# Altium footprint library Tank.PcbLib: 288 footprints (part 10 of 18)
Each footprint in its own frame and in the unit in brackets; x right, y up, seen from the top. Pads: shape width x height; smd on the part's side, far side on the other; paste and mask are expansions set on the pad; w line width, h text height; cw(c..) or ccw(c..) is an arc to the next point about the centre after c.
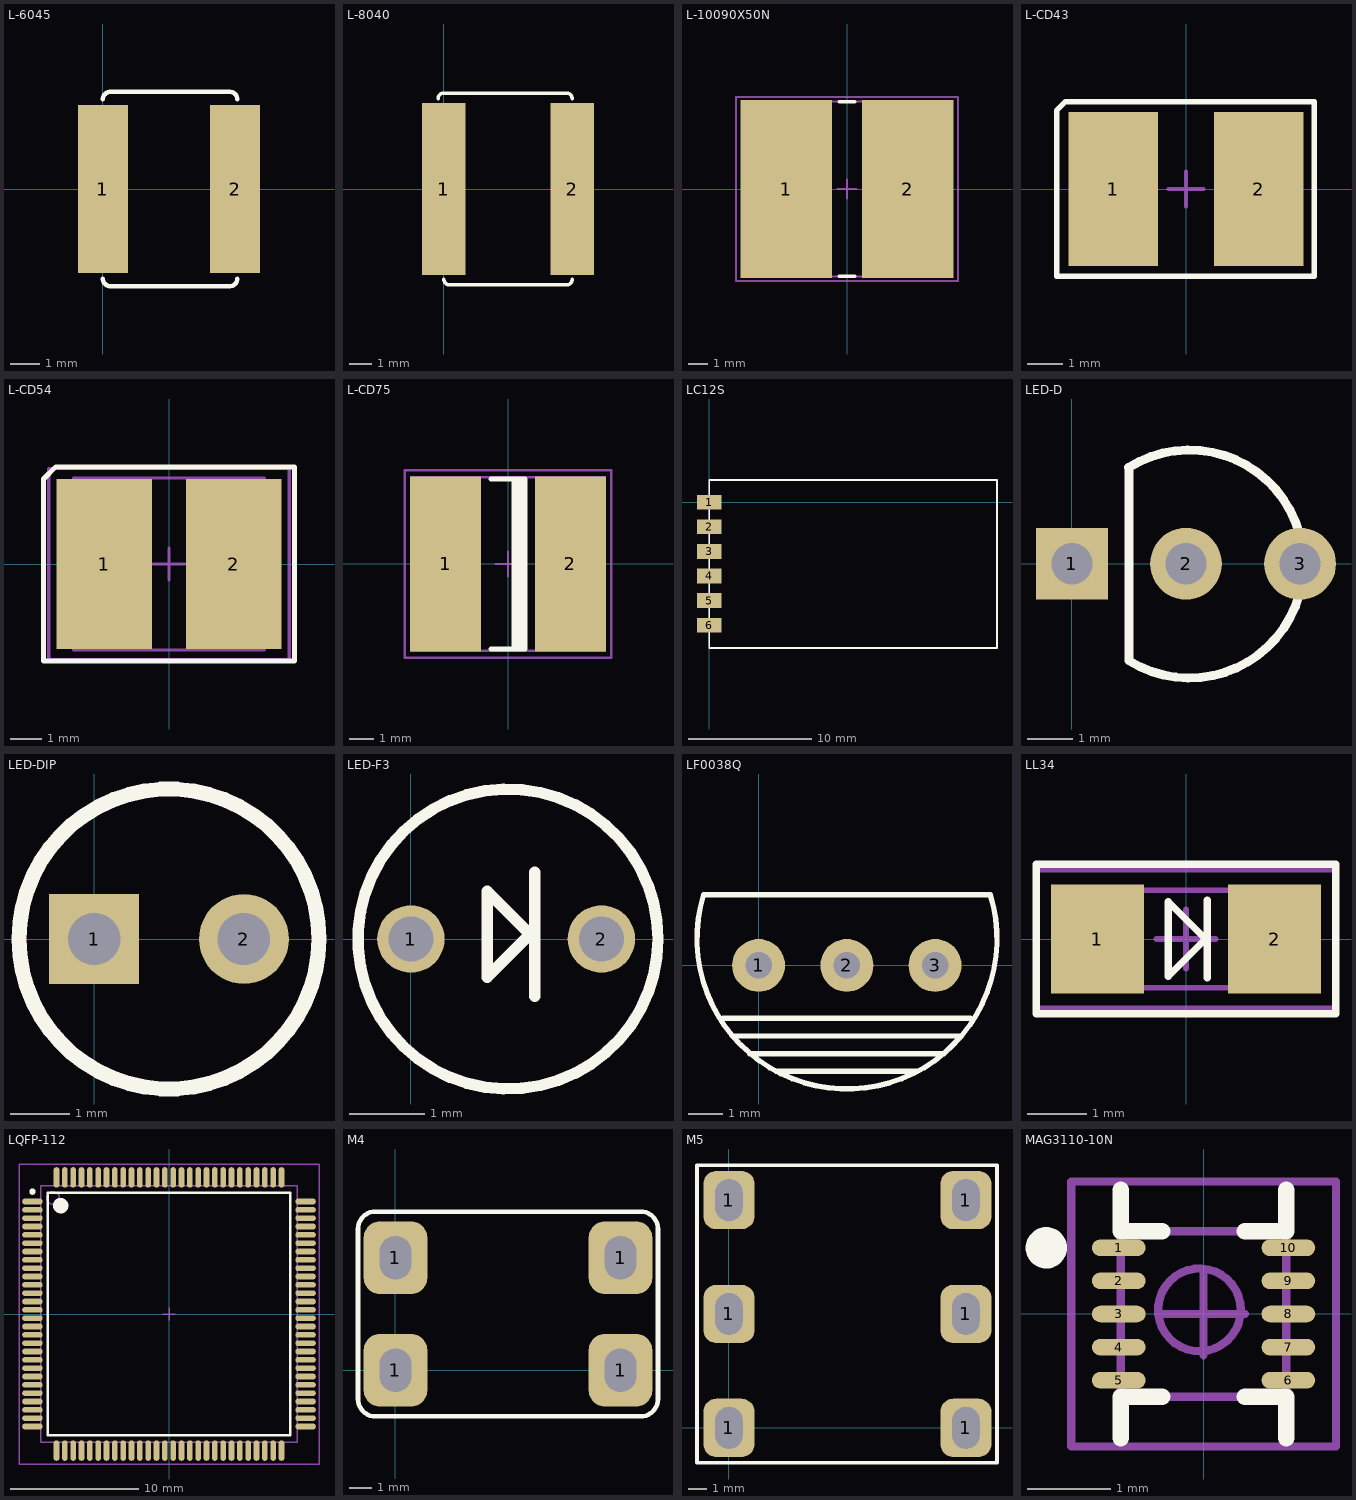
[diagram p9: the footprints below, top view; thin cyan lines are the x and y axes]

## L-6045 [mm]
pads (2):
  rect 1.7x5.7 smd: 1(0,0) 2(4.5,0)
Top Overlay:
  lines w0.152: 0,-3.048 ccw(c0.254,-3.048) 0.254,-3.302 4.331,-3.302 ccw(c4.325,-3.055) 4.572,-3.048 ; 0,3.048 cw(c0.254,3.048) 0.254,3.302 4.331,3.302 cw(c4.325,3.055) 4.572,3.048

## L-8040 [mm]
pads (2):
  rect 1.9x7.5 smd: 1(0,0) 2(5.6,0)
Top Overlay:
  lines w0.152: -0.254,3.937 cw(c0,3.937) 0,4.191 5.359,4.191 cw(c5.353,3.944) 5.6,3.937 ; 0,-3.937 ccw(c0.254,-3.937) 0.254,-4.191 5.359,-4.191 ccw(c5.353,-3.944) 5.6,-3.937

## L-10090X50N [mm] "Precision Wire Wound Inductor, 2-Leads, Body 10.0x9.0mm, IPC Medium Density"
height 5.04
pads (2):
  rect 4.8x9.4 smd: 1(-3.2,0) 2(3.2,0)
Top Overlay:
  lines w0.2: -0.4,-4.6 0.4,-4.6 ; -0.4,4.6 0.4,4.6
Mechanical 13:
  lines w0.1: -5.1,-4.6 -5.1,4.6 5.1,4.6 5.1,-4.6 -5.1,-4.6
Mechanical 15:
  lines w0.1: -0.5,0 0.5,0 ; 0,-0.5 0,0.5 ; -5.85,-4.85 -5.85,4.85 5.85,4.85 5.85,-4.85 -5.85,-4.85
3D body: height 5.04, standoff 0, extent -5.1,-4.6 5.1,4.6

## L-CD43 [mm]
pads (2):
  rect 2.5x4.3 smd: 1(-2.032,0) 2(2.032,0)
Top Overlay:
  lines w0.152: -3.607,-2.438 3.581,-2.438 3.581,2.438 -3.353,2.438 -3.607,2.184 -3.607,-2.438
Mechanical 15:
  lines w0.1: -0.5,0 0.5,0 ; 0,-0.5 0,0.5

## L-CD54 [mm]
height 2.29
pads (2):
  rect 3x5.35 smd: 1(-2.032,0) 2(2.032,0)
Top Overlay:
  lines w0.152: -3.937,-3.048 3.937,-3.048 3.937,3.048 -3.556,3.048 -3.937,2.667 -3.937,-3.048
Mechanical 13:
  rectangle: -3,-2.7 -2.193,2.7
  lines w0.1: -3,-2.7 -3,2.7 3,2.7 3,-2.7 -3,-2.7
Mechanical 15:
  lines w0.1: -0.5,0 0.5,0 ; 0,-0.5 0,0.5 ; -3.775,-3 -3.775,3 3.775,3 3.775,-3 -3.775,-3
3D body: height 2.29, standoff 0, extent -3,-2.7 3,2.7

## L-CD75 [mm] "Chip Inductor, 2-Leads, Body 7.9x7.0mm, IPC Medium Density"
height 0.6
pads (2):
  rect 2.9x7.15 smd: 1(-2.55,0) 2(2.55,0)
Top Overlay:
  rectangle: 0.15,-3.475 0.7,3.475
  lines w0.2: -0.7,-3.475 0.7,-3.475 0.7,3.475 -0.7,3.475
Mechanical 13:
  lines w0.1: -3.95,-3.55 3.95,-3.55 3.95,3.55 -3.95,3.55 -3.95,-3.55
Mechanical 15:
  lines w0.1: -0.5,0 0.5,0 ; 0,-0.5 0,0.5 ; -4.225,-3.825 4.225,-3.825 4.225,3.825 -4.225,3.825 -4.225,-3.825
3D body: height 0.6, standoff 0, extent -3.95,-3.55 3.95,3.55

## LC12S [mm]
pads (6):
  rect 2x1.2 smd: 1(0,0) 2(0,-2) 3(0,-4) 4(0,-6) 5(0,-8) 6(0,-10)
Top Overlay:
  lines w0.152: 0,-11.85 23.4,-11.85 23.4,1.8 0,1.8 0,-11.85

## LED-D [mm]
pads (3):
  rect 1.6x1.6 hole 0.92: 1(0,0)
  round 1.6 hole 0.92: 2(2.54,0) 3(5.08,0)
Top Overlay:
  lines w0.2: 1.261,2.143 cw(c2.616,-0.005) 1.27,-2.159 1.27,2.129

## LED-DIP [mil]
pads (2):
  rect 60x60 hole 35: 1(0,0)
  round 60 hole 35: 2(100,0)
Top Overlay:
  circle w10: c50,0 r100.13

## LED-F3 [mm]
pads (2):
  round 0.9 hole 0.6: 1(0,0) 2(2.54,0)
Top Overlay:
  circle w0.152: c1.294,0 r2
  lines w0.152: 1.651,-0.762 1.651,0.889 ; 1.651,0 1.016,0.635 1.016,-0.508 1.651,0.127

## LF0038Q [mil]
pads (3):
  round 60 hole 30: 1(0,0) 2(100,0) 3(200,0)
Top Overlay:
  lines w6: -62.28,80.09 ccw(c100.15,29.93) 262.56,80.17 ; -62,80 262,80 ; -40,-60 240,-60 ; -30,-80 230,-80 210,-100 -10,-100 ; 20,-120 180,-120

## LL34 [mm] "MELF Diode, 2-Leads, Body 3.3x1.6mm, IPC Medium Density"
height 1.65
pads (2):
  rect 1.575x1.85 smd: 1(-1.5,0) 2(1.5,0)
Top Overlay:
  lines w0.127: 0.356,-0.66 0.356,0.66 ; -2.54,-1.27 2.54,-1.27 2.54,1.27 -2.54,1.27 -2.54,-1.27 ; -0.305,-0.635 -0.305,0.635 0.33,0 -0.305,-0.635
Mechanical 13:
  rectangle: -1.65,-0.825 -1.206,0.825
  lines w0.1: -1.65,-0.825 -1.65,0.825 1.65,0.825 1.65,-0.825 -1.65,-0.825
Mechanical 15:
  lines w0.1: -0.5,0 0.5,0 ; 0,-0.5 0,0.5 ; -2.54,-1.175 -2.54,1.175 2.54,1.175 2.54,-1.175 -2.54,-1.175
3D body: height 1.65, standoff 0, extent -1.65,-0.825 1.65,0.825

## LQFP-112 [mm] "TQFP, 112-Leads, Body 22.0x22.0mm (max), Pitch 0.65mm, IPC Medium Density"
height 1.6
pads (112):
  oval 1.6x0.45 smd: 1(-10.65,8.775) 2(-10.65,8.125) 3(-10.65,7.475) 4(-10.65,6.825) 5(-10.65,6.175) 6(-10.65,5.525) 7(-10.65,4.875) 8(-10.65,4.225) 9(-10.65,3.575) 10(-10.65,2.925) 11(-10.65,2.275) 12(-10.65,1.625) 13(-10.65,0.975) 14(-10.65,0.325) 15(-10.65,-0.325) 16(-10.65,-0.975) 17(-10.65,-1.625) 18(-10.65,-2.275) 19(-10.65,-2.925) 20(-10.65,-3.575) 21(-10.65,-4.225) 22(-10.65,-4.875) 23(-10.65,-5.525) 24(-10.65,-6.175) 25(-10.65,-6.825) 26(-10.65,-7.475) 27(-10.65,-8.125) 28(-10.65,-8.775) 57(10.65,-8.775) 58(10.65,-8.125) 59(10.65,-7.475) 60(10.65,-6.825) 61(10.65,-6.175) 62(10.65,-5.525) 63(10.65,-4.875) 64(10.65,-4.225) 65(10.65,-3.575) 66(10.65,-2.925) 67(10.65,-2.275) 68(10.65,-1.625) 69(10.65,-0.975) 70(10.65,-0.325) 71(10.65,0.325) 72(10.65,0.975) 73(10.65,1.625) 74(10.65,2.275) 75(10.65,2.925) 76(10.65,3.575) 77(10.65,4.225) 78(10.65,4.875) 79(10.65,5.525) 80(10.65,6.175) 81(10.65,6.825) 82(10.65,7.475) 83(10.65,8.125) 84(10.65,8.775)
  oval 0.45x1.6 smd: 29(-8.775,-10.65) 30(-8.125,-10.65) 31(-7.475,-10.65) 32(-6.825,-10.65) 33(-6.175,-10.65) 34(-5.525,-10.65) 35(-4.875,-10.65) 36(-4.225,-10.65) 37(-3.575,-10.65) 38(-2.925,-10.65) 39(-2.275,-10.65) 40(-1.625,-10.65) 41(-0.975,-10.65) 42(-0.325,-10.65) 43(0.325,-10.65) 44(0.975,-10.65) 45(1.625,-10.65) 46(2.275,-10.65) 47(2.925,-10.65) 48(3.575,-10.65) 49(4.225,-10.65) 50(4.875,-10.65) 51(5.525,-10.65) 52(6.175,-10.65) 53(6.825,-10.65) 54(7.475,-10.65) 55(8.125,-10.65) 56(8.775,-10.65) 85(8.775,10.65) 86(8.125,10.65) 87(7.475,10.65) 88(6.825,10.65) 89(6.175,10.65) 90(5.525,10.65) 91(4.875,10.65) 92(4.225,10.65) 93(3.575,10.65) 94(2.925,10.65) 95(2.275,10.65) 96(1.625,10.65) 97(0.975,10.65) 98(0.325,10.65) 99(-0.325,10.65) 100(-0.975,10.65) 101(-1.625,10.65) 102(-2.275,10.65) 103(-2.925,10.65) 104(-3.575,10.65) 105(-4.225,10.65) 106(-4.875,10.65) 107(-5.525,10.65) 108(-6.175,10.65) 109(-6.825,10.65) 110(-7.475,10.65) 111(-8.125,10.65) 112(-8.775,10.65)
Top Overlay:
  circle w0.6: c-8.45,8.45 r0.3
  circle w0.25: c-10.65,9.55 r0.125
  lines w0.2: -9.45,-9.45 9.45,-9.45 9.45,9.45 -9.45,9.45 -9.45,-9.45
Mechanical 13:
  circle w0.1: c-9.05,9.05 r0.5
  lines w0.1: -10,-10 10,-10 10,10 -10,10 -10,-10
Mechanical 15:
  lines w0.1: -0.5,0 0.5,0 ; 0,-0.5 0,0.5 ; -11.7,-11.7 11.7,-11.7 11.7,11.7 -11.7,11.7 -11.7,-11.7
3D body: height 1.6, standoff 0.15, extent -10,-10 10,10

## M4 [mm]
pads (4):
  rrect50% 2.8x3.2 hole 1.4 slot 1.9 at 90 deg: 1(0,0) 1(0,4.953) 1(9.906,0) 1(9.906,4.953)
Top Overlay:
  lines w0.2: -1.651,-1.27 ccw(c-0.889,-1.27) -0.889,-2.032 10.795,-2.032 ccw(c10.795,-1.27) 11.557,-1.27 11.557,6.223 ccw(c10.795,6.223) 10.795,6.985 -0.889,6.985 ccw(c-0.889,6.223) -1.651,6.223 -1.651,-1.27

## M5 [mm]
pads (6):
  rrect50% 2.8x3.2 hole 1.5 slot 2.3 at 90 deg: 1(0,0) 1(0,6.25) 1(0,12.5) 1(13,0) 1(13,6.25) 1(13,12.5)
Top Overlay:
  lines w0.2: -1.753,-1.905 14.707,-1.905 14.707,14.402 -1.753,14.402 -1.753,-1.905

## MAG3110-10N [mm] "QFN, 10-Leads, Body 2.0x2.0mm (max), Pitch 0.40mm, IPC Medium Density"
height 0.9
pads (10):
  oval 0.65x0.2 smd: 1(-1.025,0.8) 2(-1.025,0.4) 3(-1.025,0) 4(-1.025,-0.4) 5(-1.025,-0.8) 6(1.025,-0.8) 7(1.025,-0.4) 8(1.025,0) 9(1.025,0.4) 10(1.025,0.8)
Top Overlay:
  circle w0.25: c-1.9,0.8 r0.125
  lines w0.2: -1,-1.5 -1,-1 -0.5,-1 ; -1,1.5 -1,1 -0.5,1 ; 0.5,-1 1,-1 1,-1.5 ; 0.5,1 1,1 1,1.5
Mechanical 13:
  circle w0.1: c-0.05,0.05 r0.5
  lines w0.1: -1,-1 -1,1 1,1 1,-1 -1,-1
Mechanical 15:
  lines w0.1: -0.5,0 0.5,0 ; 0,-0.5 0,0.5 ; -1.6,-1.6 -1.6,1.6 1.6,1.6 1.6,-1.6 -1.6,-1.6
3D body: height 0.9, standoff 0.01, extent -1,-1 1,1